# EAGLE library part TRANSFORMER (library misc)
Transformer intended to use with SN6501 chip
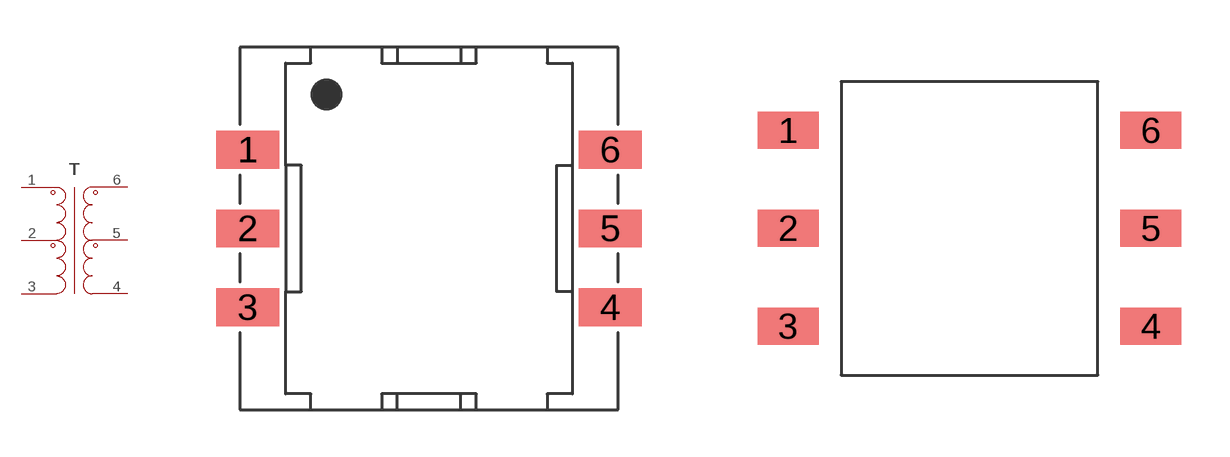
[diagram p40: symbol with the pads of II1304042101; footprints II1304042101, 750313734]

Designator prefix T

## TRANSFORMER-II1304042101 (COMPEL: http://www.compel.ru/infosheet/SUMIDA/II1304042101/; MANF: Sumida; MANF#: II1304042101)  [II1304042101]
1  P$1
2  P$2
3  P$3
4  P$4
5  P$5
6  P$6

## TRANSFORMER-750313734 (DIGIKEY#: 1297-1106-1-ND; MANF: Wurth Electronics Midcom; MANF#: 750313734)  [750313734]
Pads as for II1304042101

## Footprint II1304042101 (pad centres in mm)
smd 2 x 1.2: 1 -5.75,2.5; 2 -5.75,0; 3 -5.75,-2.5; 4 5.75,-2.5; 5 5.75,0; 6 5.75,2.5

## Footprint 750313734 (pad centres in mm)
Drawing <https://katalog.we-online.de/ctm/datasheet/750313734.pdf>
smd 1.9 x 1.15: 1 -5.65,3.05; 2 -5.65,0; 3 -5.65,-3.05; 4 5.65,-3.05; 5 5.65,0; 6 5.65,3.05